# EAGLE library part PWR_CHG_BQ25672RQMR (library !GPLIB_ACTIVE)
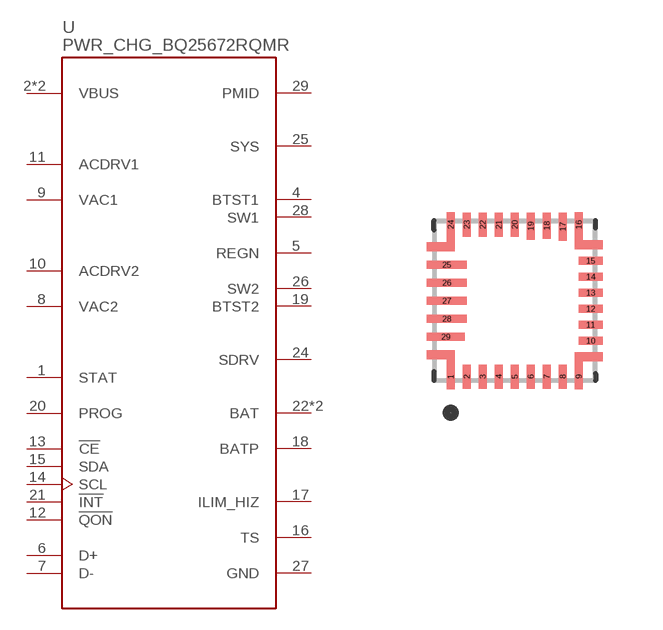
[diagram p79: symbol with the pads of QFN-29(4X4); footprint QFN-29(4X4)]

Designator prefix U

## PWR_CHG_BQ25672RQMR  [QFN-29(4X4)]
1  STAT  out
2  VBUS  in
3  VBUS  in
4  BTST1  pas
5  REGN  out
6  D+
7  D-
8  VAC2  in
9  VAC1  in
10  ACDRV2  in
11  ACDRV1  in
12  !QON  in
13  !CE  in
14  SCL  in
15  SDA
16  TS  pas
17  ILIM_HIZ  pas
18  BATP  in
19  BTST2  pas
20  PROG  in
21  !INT  out
22  BAT  pwr
23  BAT  pwr
24  SDRV  out
25  SYS  pwr
26  SW2  pas
27  GND  pwr
28  SW1  pas
29  PMID  in

## Footprint QFN-29(4X4) (pad centres in mm)
smd 0.15 x 0.55: 1 -1.6,-1.9; 9 1.6,-1.9; 16 1.6,1.9; 24 -1.6,1.9
smd 0.2 x 0.6: 2 -1.2,-1.9; 3 -0.8,-1.9; 4 -0.4,-1.9; 5 0,-1.9; 6 0.4,-1.9; 7 0.8,-1.9; 8 1.2,-1.9; 20 0,1.9; 21 -0.4,1.9; 22 -0.8,1.9; 23 -1.2,1.9
smd 0.6 x 0.2: 10 1.9,-1; 11 1.9,-0.6; 12 1.9,-0.2; 13 1.9,0.2; 14 1.9,0.6; 15 1.9,1
smd 0.2 x 0.7: 17 1.2,1.85
smd 0.2 x 0.65: 18 0.8,1.875
smd 0.2 x 0.68: 19 0.4,1.863
smd 1 x 0.2: 25 -1.7,0.9; 26 -1.7,0.45; 27 -1.7,0; 28 -1.7,-0.45
smd 0.95 x 0.2: 29 -1.725,-0.9